# EAGLE library part DM5441A (library DM5441A)
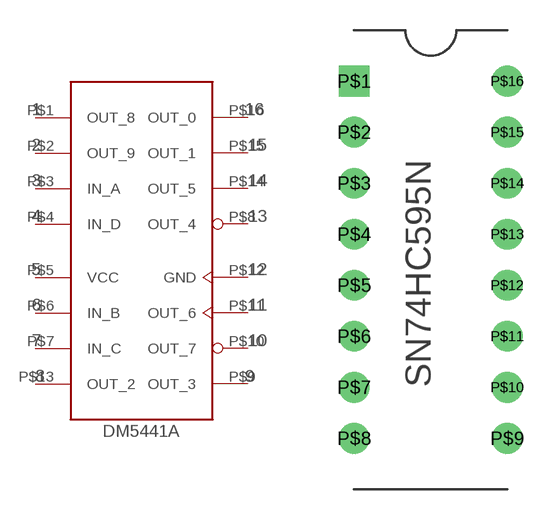
[diagram p0: symbol with the pads of DIP-16; footprint DIP-16]

Designator prefix -

## DM5441ADIP-16 (AVAILABILITY: Unavailable; DESCRIPTION: Shift Register Single 8 Bit Serial To Serial Parallel 16 Pin Plastic DIP Tube; MF: Texas Instruments; MP: SN74HC595N; PACKAGE: PDIP-16 Texas Instruments; PRICE: None)  [DIP-16]
P$1  OUT_8
P$2  OUT_9
P$3  IN_A
P$4  IN_D
P$5  VCC
P$6  IN_B
P$7  IN_C
P$8  OUT_4
P$9  OUT_3
P$10  OUT_7
P$11  OUT_6
P$12  GND  in
P$13  OUT_2
P$14  OUT_5
P$15  OUT_1
P$16  OUT_0

## Footprint DIP-16 (pad centres in mm)
drill 1.016 square: P$1 -3.81,8.89
drill 1.016: P$2 -3.81,6.35; P$3 -3.81,3.81; P$4 -3.81,1.27; P$5 -3.81,-1.27; P$6 -3.81,-3.81; P$7 -3.81,-6.35; P$8 -3.81,-8.89; P$9 3.81,-8.89; P$10 3.81,-6.35; P$11 3.81,-3.81; P$12 3.81,-1.27; P$13 3.81,1.27; P$14 3.81,3.81; P$15 3.81,6.35; P$16 3.81,8.89